# EAGLE library part TLW-133-05-G-S (library SAMTEC-Txx_By_element14_Batch_1)
LOW PROFILE HEADER
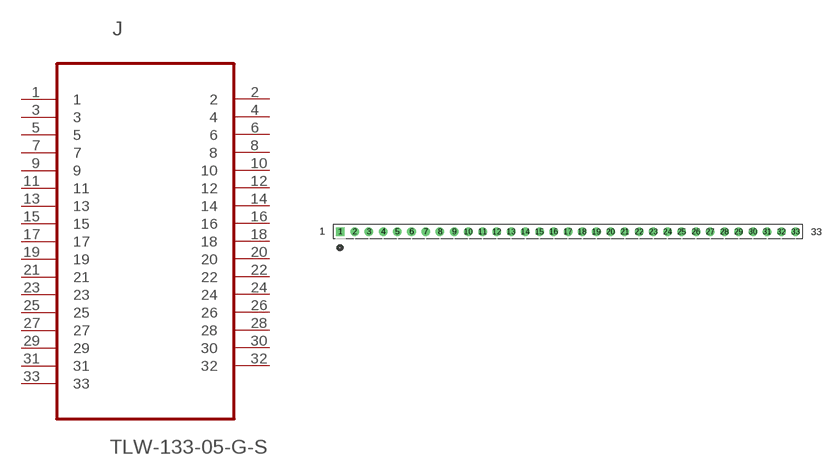
[diagram p354: symbol with the pads of SAMTEC_TLW-133-05-G-S; footprint SAMTEC_TLW-133-05-G-S]

Designator prefix J

## TLW-133-05-G-S (MPN: TLW-133-05-G-S; OC_FARNELL: -; OC_NEWARK: 12P0599; PACKAGE: LOW PROFILE HEADER, SINGLE ROW, 33 way; SUPPLIER: SAMTEC)  [SAMTEC_TLW-133-05-G-S]
1  1  pas
2  2  pas
3  3  pas
4  4  pas
5  5  pas
6  6  pas
7  7  pas
8  8  pas
9  9  pas
10  10  pas
11  11  pas
12  12  pas
13  13  pas
14  14  pas
15  15  pas
16  16  pas
17  17  pas
18  18  pas
19  19  pas
20  20  pas
21  21  pas
22  22  pas
23  23  pas
24  24  pas
25  25  pas
26  26  pas
27  27  pas
28  28  pas
29  29  pas
30  30  pas
31  31  pas
32  32  pas
33  33  pas

## Footprint SAMTEC_TLW-133-05-G-S (pad centres in mm)
drill 1.016 square: 1 -81.28,0
drill 1.016: 2 -78.74,0; 3 -76.2,0; 4 -73.66,0; 5 -71.12,0; 6 -68.58,0; 7 -66.04,0; 8 -63.5,0; 9 -60.96,0; 10 -58.42,0; 11 -55.88,0; 12 -53.34,0; 13 -50.8,0; 14 -48.26,0; 15 -45.72,0; 16 -43.18,0; 17 -40.64,0; 18 -38.1,0; 19 -35.56,0; 20 -33.02,0; 21 -30.48,0; 22 -27.94,0; 23 -25.4,0; 24 -22.86,0; 25 -20.32,0; 26 -17.78,0; 27 -15.24,0; 28 -12.7,0; 29 -10.16,0; 30 -7.62,0; 31 -5.08,0; 32 -2.54,0; 33 0,0